# Altium footprint library LIANGJICHAO_LIBRARY.PCBLIB: 178 footprints (part 10 of 12)
Each footprint in its own frame and in the unit in brackets; x right, y up, seen from the top. Pads: shape width x height; smd on the part's side, far side on the other; paste and mask are expansions set on the pad; w line width, h text height; cw(c..) or ccw(c..) is an arc to the next point about the centre after c.
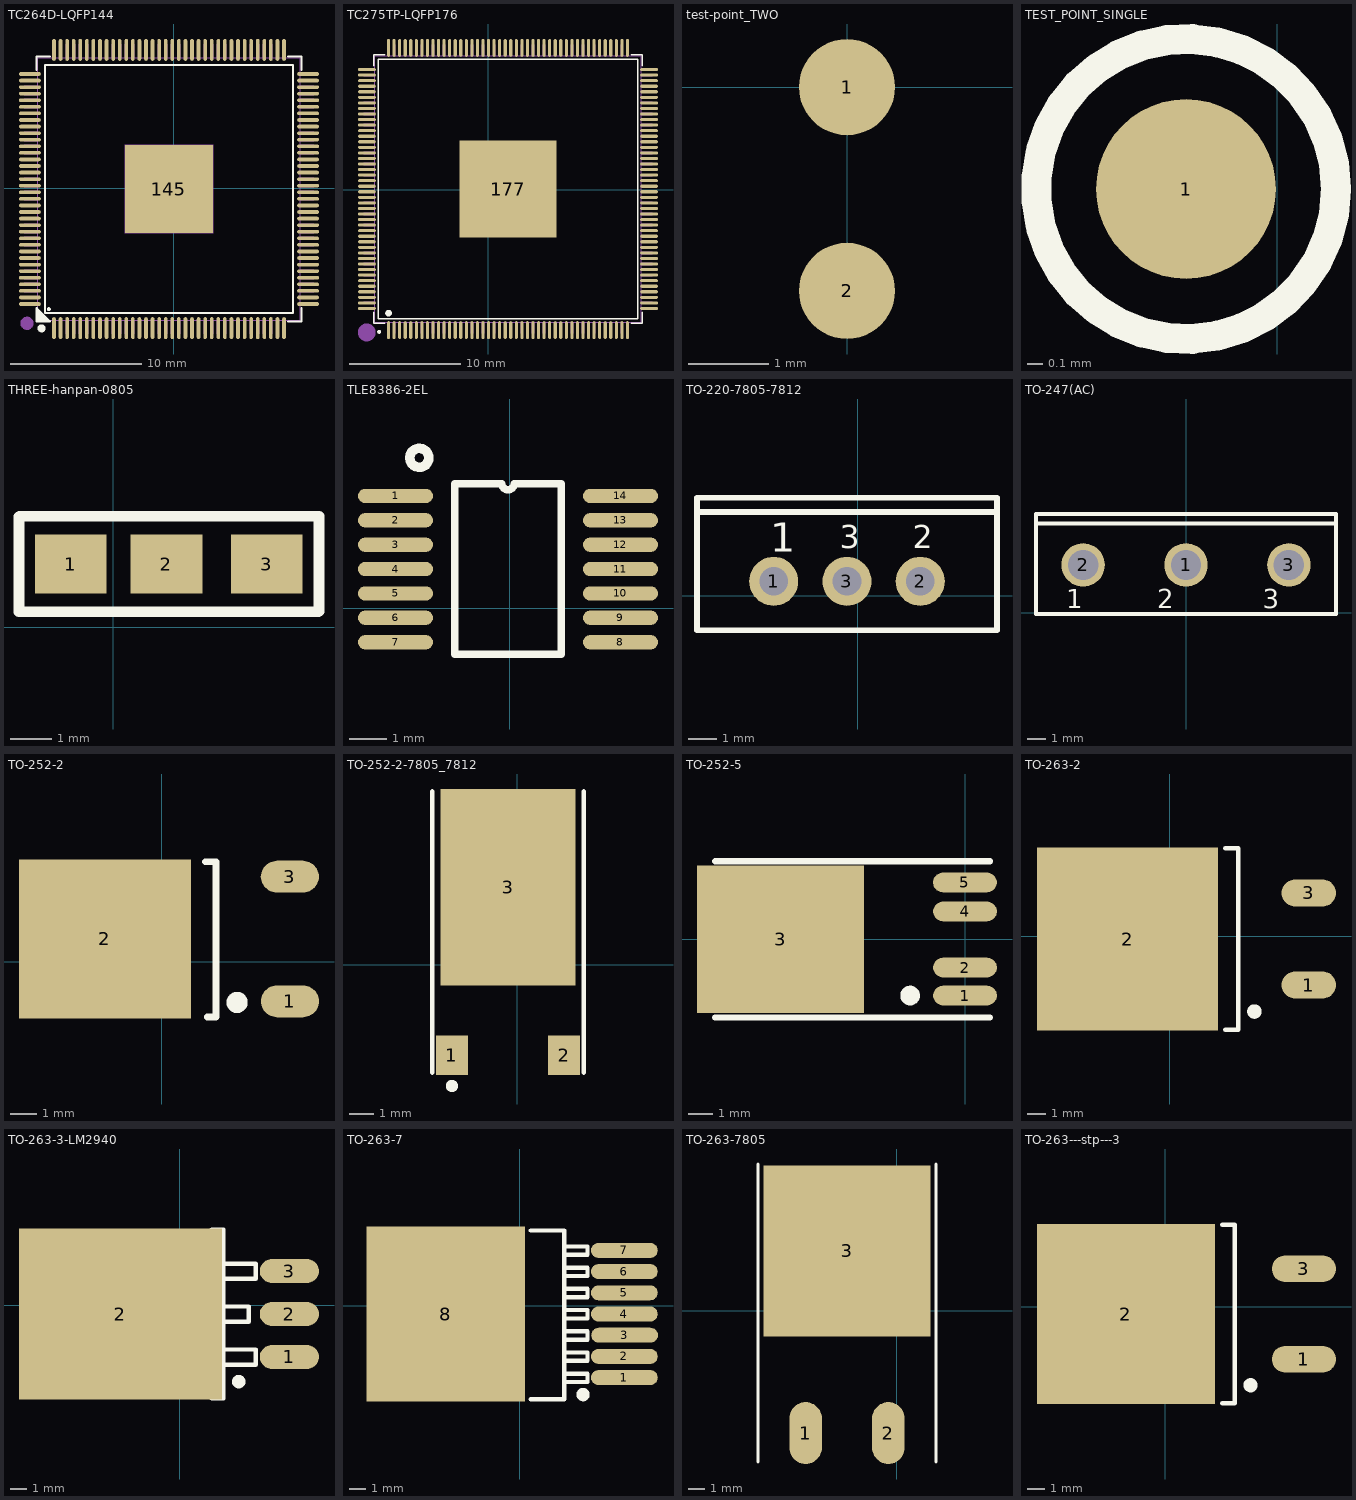
[diagram p9: the footprints below, top view; thin cyan lines are the x and y axes]

## TC264D-LQFP144 [mm]
pads (145):
  oval 0.28x1.66 smd paste+0 mask+0.05: 1(-9.1,-10.651) 2(-8.6,-10.651) 3(-8.1,-10.651) 4(-7.6,-10.651) 5(-7.1,-10.651) 6(-6.6,-10.651) 7(-6.1,-10.651) 8(-5.6,-10.651) 9(-5.1,-10.651) 10(-4.6,-10.651) 11(-4.1,-10.651) 12(-3.6,-10.651) 13(-3.1,-10.651) 14(-2.6,-10.651) 15(-2.1,-10.651) 16(-1.6,-10.651) 17(-1.1,-10.651) 18(-0.6,-10.651) 19(-0.1,-10.651) 20(0.4,-10.651) 21(0.9,-10.651) 22(1.4,-10.651) 23(1.9,-10.651) 24(2.4,-10.651) 25(2.9,-10.651) 26(3.4,-10.651) 27(3.9,-10.651) 28(4.4,-10.651) 29(4.9,-10.651) 30(5.4,-10.651) 31(5.9,-10.651) 32(6.4,-10.651) 33(6.9,-10.651) 34(7.4,-10.651) 35(7.9,-10.651) 36(8.4,-10.651) 73(8.4,10.509) 74(7.9,10.509) 75(7.4,10.509) 76(6.9,10.509) 77(6.4,10.509) 78(5.9,10.509) 79(5.4,10.509) 80(4.9,10.509) 81(4.4,10.509) 82(3.9,10.509) 83(3.4,10.509) 84(2.9,10.509) 85(2.4,10.509) 86(1.9,10.509) 87(1.4,10.509) 88(0.9,10.509) 89(0.4,10.509) 90(-0.1,10.509) 91(-0.6,10.509) 92(-1.1,10.509) 93(-1.6,10.509) 94(-2.1,10.509) 95(-2.6,10.509) 96(-3.1,10.509) 97(-3.6,10.509) 98(-4.1,10.509) 99(-4.6,10.509) 100(-5.1,10.509) 101(-5.6,10.509) 102(-6.1,10.509) 103(-6.6,10.509) 104(-7.1,10.509) 105(-7.6,10.509) 106(-8.1,10.509) 107(-8.6,10.509) 108(-9.1,10.509)
  oval 1.66x0.28 smd paste+0 mask+0.05: 37(10.23,-8.821) 38(10.23,-8.321) 39(10.23,-7.821) 40(10.23,-7.321) 41(10.23,-6.821) 42(10.23,-6.321) 43(10.23,-5.821) 44(10.23,-5.321) 45(10.23,-4.821) 46(10.23,-4.321) 47(10.23,-3.821) 48(10.23,-3.321) 49(10.23,-2.821) 50(10.23,-2.321) 51(10.23,-1.821) 52(10.23,-1.321) 53(10.23,-0.821) 54(10.23,-0.321) 55(10.23,0.179) 56(10.23,0.679) 57(10.23,1.179) 58(10.23,1.679) 59(10.23,2.179) 60(10.23,2.679) 61(10.23,3.179) 62(10.23,3.679) 63(10.23,4.179) 64(10.23,4.679) 65(10.23,5.179) 66(10.23,5.679) 67(10.23,6.179) 68(10.23,6.679) 69(10.23,7.179) 70(10.23,7.679) 71(10.23,8.179) 72(10.23,8.679) 109(-10.93,8.679) 110(-10.93,8.179) 111(-10.93,7.679) 112(-10.93,7.179) 113(-10.93,6.679) 114(-10.93,6.179) 115(-10.93,5.679) 116(-10.93,5.179) 117(-10.93,4.679) 118(-10.93,4.179) 119(-10.93,3.679) 120(-10.93,3.179) 121(-10.93,2.679) 122(-10.93,2.179) 123(-10.93,1.679) 124(-10.93,1.179) 125(-10.93,0.679) 126(-10.93,0.179) 127(-10.93,-0.321) 128(-10.93,-0.821) 129(-10.93,-1.321) 130(-10.93,-1.821) 131(-10.93,-2.321) 132(-10.93,-2.821) 133(-10.93,-3.321) 134(-10.93,-3.821) 135(-10.93,-4.321) 136(-10.93,-4.821) 137(-10.93,-5.321) 138(-10.93,-5.821) 139(-10.93,-6.321) 140(-10.93,-6.821) 141(-10.93,-7.321) 142(-10.93,-7.821) 143(-10.93,-8.321) 144(-10.93,-8.821)
  rect 6.7x6.7 smd paste+0 mask+0.05: 145(-0.35,-0.071)
Top Overlay:
  circle w0.3: c-10.05,-10.671 r0.15
  circle w0.15: c-9.493,-9.214 r0.075
  region: -10.427,-9.113 -10.427,-10.071 -10.35,-10.147 -9.393,-10.147
  lines w0.152: -10.427,-9.113 -10.427,-10.147 -9.393,-10.147 ; -10.427,8.971 -10.427,10.005 -9.393,10.005 ; -10.4,-9.14 -9.42,-10.12 ; 8.692,-10.147 9.726,-10.147 9.726,-9.113 ; 8.692,10.005 9.726,10.005 9.726,8.971 ; -9.796,-9.516 9.095,-9.516 9.095,9.374 -9.796,9.374 -9.796,-9.516
Mechanical 2:
  circle w0.5: c-11.151,-10.287 r0.25
Mechanical 6:
  lines w0.051: -10.35,-10.071 9.65,-10.071 9.65,9.929 -10.35,9.929 -10.35,-10.071
Mechanical 7:
  drawing of 144 lines, arcs and shapes, not listed
Mechanical 9:
  drawing of 145 lines, arcs and shapes, not listed

## TC275TP-LQFP176 [mm]
pads (177):
  oval 0.28x1.6 smd paste+0.051: 1(-8.985,-12.643) 2(-8.485,-12.643) 3(-7.985,-12.643) 4(-7.485,-12.643) 5(-6.985,-12.643) 6(-6.485,-12.643) 7(-5.985,-12.643) 8(-5.485,-12.643) 9(-4.985,-12.643) 10(-4.485,-12.643) 11(-3.985,-12.643) 12(-3.485,-12.643) 13(-2.985,-12.643) 14(-2.485,-12.643) 15(-1.985,-12.643) 16(-1.485,-12.643) 17(-0.985,-12.643) 18(-0.485,-12.643) 19(0.015,-12.643) 20(0.515,-12.643) 21(1.015,-12.643) 22(1.515,-12.643) 23(2.015,-12.643) 24(2.515,-12.643) 25(3.015,-12.643) 26(3.515,-12.643) 27(4.015,-12.643) 28(4.515,-12.643) 29(5.015,-12.643) 30(5.515,-12.643) 31(6.015,-12.643) 32(6.515,-12.643) 33(7.015,-12.643) 34(7.515,-12.643) 35(8.015,-12.643) 36(8.515,-12.643) 37(9.015,-12.643) 38(9.515,-12.643) 39(10.015,-12.643) 40(10.515,-12.643) 41(11.015,-12.643) 42(11.515,-12.643) 43(12.015,-12.643) 44(12.515,-12.643) 89(12.515,12.757) 90(12.015,12.757) 91(11.515,12.757) 92(11.015,12.757) 93(10.515,12.757) 94(10.015,12.757) 95(9.515,12.757) 96(9.015,12.757) 97(8.515,12.757) 98(8.015,12.757) 99(7.515,12.757) 100(7.015,12.757) 101(6.515,12.757) 102(6.015,12.757) 103(5.515,12.757) 104(5.015,12.757) 105(4.515,12.757) 106(4.015,12.757) 107(3.515,12.757) 108(3.015,12.757) 109(2.515,12.757) 110(2.015,12.757) 111(1.515,12.757) 112(1.015,12.757) 113(0.515,12.757) 114(0.015,12.757) 115(-0.485,12.757) 116(-0.985,12.757) 117(-1.485,12.757) 118(-1.985,12.757) 119(-2.485,12.757) 120(-2.985,12.757) 121(-3.485,12.757) 122(-3.985,12.757) 123(-4.485,12.757) 124(-4.985,12.757) 125(-5.485,12.757) 126(-5.985,12.757) 127(-6.485,12.757) 128(-6.985,12.757) 129(-7.485,12.757) 130(-7.985,12.757) 131(-8.485,12.757) 132(-8.985,12.757)
  oval 1.6x0.28 smd paste+0.051: 45(14.465,-10.693) 46(14.465,-10.193) 47(14.465,-9.693) 48(14.465,-9.193) 49(14.465,-8.693) 50(14.465,-8.193) 51(14.465,-7.693) 52(14.465,-7.193) 53(14.465,-6.693) 54(14.465,-6.193) 55(14.465,-5.693) 56(14.465,-5.193) 57(14.465,-4.693) 58(14.465,-4.193) 59(14.465,-3.693) 60(14.465,-3.193) 61(14.465,-2.693) 62(14.465,-2.193) 63(14.465,-1.693) 64(14.465,-1.193) 65(14.465,-0.693) 66(14.465,-0.193) 67(14.465,0.307) 68(14.465,0.807) 69(14.465,1.307) 70(14.465,1.807) 71(14.465,2.307) 72(14.465,2.807) 73(14.465,3.307) 74(14.465,3.807) 75(14.465,4.307) 76(14.465,4.807) 77(14.465,5.307) 78(14.465,5.807) 79(14.465,6.307) 80(14.465,6.807) 81(14.465,7.307) 82(14.465,7.807) 83(14.465,8.307) 84(14.465,8.807) 85(14.465,9.307) 86(14.465,9.807) 87(14.465,10.307) 88(14.465,10.807) 133(-10.935,10.807) 134(-10.935,10.307) 135(-10.935,9.807) 136(-10.935,9.307) 137(-10.935,8.807) 138(-10.935,8.307) 139(-10.935,7.807) 140(-10.935,7.307) 141(-10.935,6.807) 142(-10.935,6.307) 143(-10.935,5.807) 144(-10.935,5.307) 145(-10.935,4.807) 146(-10.935,4.307) 147(-10.935,3.807) 148(-10.935,3.307) 149(-10.935,2.807) 150(-10.935,2.307) 151(-10.935,1.807) 152(-10.935,1.307) 153(-10.935,0.807) 154(-10.935,0.307) 155(-10.935,-0.193) 156(-10.935,-0.693) 157(-10.935,-1.193) 158(-10.935,-1.693) 159(-10.935,-2.193) 160(-10.935,-2.693) 161(-10.935,-3.193) 162(-10.935,-3.693) 163(-10.935,-4.193) 164(-10.935,-4.693) 165(-10.935,-5.193) 166(-10.935,-5.693) 167(-10.935,-6.193) 168(-10.935,-6.693) 169(-10.935,-7.193) 170(-10.935,-7.693) 171(-10.935,-8.193) 172(-10.935,-8.693) 173(-10.935,-9.193) 174(-10.935,-9.693) 175(-10.935,-10.193) 176(-10.935,-10.693)
  rect 8.7x8.7 smd paste+0.051: 177(1.765,0.057)
Top Overlay:
  circle w0.3: c-8.985,-11.114 r0.15
  circle w0.2: c-9.83,-12.802 r0.076
  lines w0.152: -10.311,-11.023 -10.311,-12.019 -9.315,-12.019 ; -10.311,11.138 -10.311,12.133 -9.315,12.133 ; 12.846,-12.019 13.841,-12.019 13.841,-11.023 ; 12.846,12.133 13.841,12.133 13.841,11.138 ; -9.906,-11.614 13.437,-11.614 13.437,11.729 -9.906,11.729 -9.906,-11.614
Mechanical 2:
  circle w0.8: c-10.947,-12.852 r0.4
Mechanical 6:
  lines w0.051: -10.235,-11.943 13.765,-11.943 13.765,12.057 -10.235,12.057 -10.235,-11.943
Mechanical 7:
  drawing of 176 lines, arcs and shapes, not listed
Mechanical 8:
  region: -11.175,-12.943 -11.175,-12.968 -11.21,-13.003 -11.26,-13.003 -11.295,-12.968 -11.295,-12.943 -11.295,-12.918 -11.26,-12.883 -11.21,-12.883 -11.175,-12.918
Mechanical 9:
  drawing of 177 lines, arcs and shapes, not listed

## test-point_TWO [mm]
pads (2):
  round 1.2 smd: 1(0,0) 2(0,-2.54)

## TEST_POINT_SINGLE [mm]
pads (1):
  round 1.2 smd: 1(-0.61,3.607)
Top Overlay:
  circle w0.2: c-0.61,3.607 r1

## THREE-hanpan-0805 [mil]
pads (3):
  rect 68x56 smd: 1(-40,60) 2(50.55,60) 3(145.55,60)
Top Overlay:
  lines w7.87: -78,14.72 -63,14.72 ; -78,105.28 -62.45,105.28 ; 168.45,14.72 184,14.72 ; 169,105.28 184,105.28
  lines w10: -38.28,105.28 -10.55,105.28 116.55,105.28 169,105.28 195,105.28 195,15.28 194.45,14.72 130.28,14.72 ; -24.28,105.28 -88.45,105.28 -89,104.72 -89,14.72 -63,14.72 -10.55,14.72 116.55,14.72 144.28,14.72

## TLE8386-2EL [mm]
pads (14):
  oval 2x0.38 smd: 1(-3.048,2.997) 2(-3.048,2.347) 3(-3.048,1.697) 4(-3.048,1.047) 5(-3.048,0.397) 6(-3.048,-0.253) 7(-3.048,-0.903) 8(2.952,-0.903) 9(2.952,-0.253) 10(2.952,0.397) 11(2.952,1.047) 12(2.952,1.697) 13(2.952,2.347) 14(2.952,2.997)
Top Overlay:
  circle w0.254: c-2.413,4.013 r0.254
  lines w0.2: -1.463,-1.228 -1.463,3.322 -0.21,3.322 ccw(c-0.048,3.322) 0.114,3.322 1.367,3.322 1.367,-1.228 -1.463,-1.228

## TO-220-7805-7812 [mm]
pads (3):
  round 1.7 hole 1: 1(-2.921,0.508) 2(2.159,0.508) 3(-0.381,0.508)
Top Overlay:
  lines w0.2: -5.581,2.908 4.819,2.908 ; -5.581,-1.192 -5.581,3.408 4.819,3.408 4.819,-1.192 -5.581,-1.192
  text "1" at -3.048,1.524 h1
  text "2" at 1.905,1.651 h0.8
  text "3" at -0.635,1.651 h0.8

## TO-247(AC) [mm]
pads (3):
  round 2.3 hole 1.6: 1(0,2.54) 2(-5.45,2.54) 3(5.45,2.54)
Top Overlay:
  lines w0.2: -7.95,4.74 7.95,4.74 ; -7.95,-0.06 -7.95,5.24 7.95,5.24 7.95,-0.06 -7.95,-0.06
  text "3" at 4.064,0.254 h1
  text "2" at -1.524,0.254 h1
  text "1" at -6.35,0.254 h1

## TO-252-2 [mm]
pads (3):
  oval 2.2x1.2 smd: 1(4.84,-1.495) 3(4.836,3.227)
  rect 6.5x6 smd: 2(-2.16,0.866)
Top Overlay:
  circle w0.4: c2.84,-1.534 r0.2
  lines w0.254: 1.64,3.791 2.04,3.791 2.04,-2.084 1.715,-2.084

## TO-252-2-7805_7812 [mm]
pads (3):
  rect 1.3x1.6 smd: 1(-2.666,-3.679) 2(1.904,-3.679)
  rect 5.5x8 smd: 3(-0.381,3.171)
Top Overlay:
  circle w0.25: c-2.666,-4.929 r0.125
  lines w0.2: -3.466,-4.379 -3.466,6.621 -3.466,7.075 ; 2.704,-4.379 2.704,6.621 2.704,7.075

## TO-252-5 [mm]
pads (5):
  oval 2.6x0.8 smd: 1(0,-2.283) 2(0,-1.143) 4(0,1.137) 5(-0.004,2.317)
  rect 6.8x6 smd: 3(-7.5,0)
Top Overlay:
  circle w0.4: c-2.232,-2.283 r0.2
  lines w0.254: -10.16,-3.172 1.016,-3.172 ; -10.16,3.175 1.016,3.175

## TO-263-2 [mm]
pads (3):
  oval 3x1.5 smd: 1(7.673,-2.694) 3(7.673,2.386)
  rect 10x10.1 smd: 2(-2.327,-0.154)
Top Overlay:
  circle w0.4: c4.673,-4.154 r0.2
  lines w0.254: 3.073,-5.154 3.773,-5.154 3.773,4.846 3.073,4.846

## TO-263-3-LM2940 [mil]
pads (4):
  oval 137.8x56 smd: 1(255,-120) 2(255,-20) 3(255,80)
  rect 472.44x397.64 smd: 2(-138.7,-20)
Top Overlay:
  circle w15.75: c136.89,-177.48 r7.87
  lines w10: 73.9,-216.85 101.46,-216.85 101.46,176.85 73.9,176.85 ; 101.46,-138.11 176.26,-138.11 176.26,-102.68 101.46,-102.68 ; 101.46,-38.11 160.51,-38.11 160.51,-2.68 101.46,-2.68 ; 101.46,61.89 176.26,61.89 176.26,97.32 101.46,97.32

## TO-263-7 [mm]
pads (8):
  oval 4x0.9 smd: 1(6.26,-4.317) 2(6.26,-3.047) 3(6.274,-1.778) 4(6.26,-0.507) 5(6.26,0.763) 6(6.26,2.033) 7(6.26,3.303)
  rect 9.5x10.5 smd: 8(-4.44,-0.507)
Top Overlay:
  circle w0.4: c3.785,-5.332 r0.2
  lines w0.254: 0.66,-5.607 2.66,-5.607 2.66,4.493 0.66,4.493 ; 2.66,-4.582 4.06,-4.582 4.06,-4.082 2.66,-4.082 ; 2.66,-3.312 4.06,-3.312 4.06,-2.812 2.66,-2.812 ; 2.66,-2.042 4.06,-2.042 4.06,-1.542 2.66,-1.542 ; 2.66,-0.772 4.06,-0.772 4.06,-0.272 2.66,-0.272 ; 2.66,0.498 4.06,0.498 4.06,0.998 2.66,0.998 ; 2.66,1.768 4.06,1.768 4.06,2.268 2.66,2.268 ; 2.66,3.038 4.06,3.038 4.06,3.538 2.66,3.538

## TO-263-7805 [mm]
pads (3):
  oval 2x3.8 smd: 1(-5.588,-7.492) 2(-0.508,-7.492)
  rect 10.25x10.5 smd: 3(-3.048,3.683)
Top Overlay:
  circle w0.25: c-5.588,-8.899 r0.125
  lines w0.2: -8.509,-9.271 -8.509,9.017 ; 2.413,-9.271 2.413,9.017

## TO-263---stp---3 [mm]
pads (3):
  oval 3.6x1.5 smd: 1(7.8,-2.948) 3(7.8,2.132)
  rect 10x10.1 smd: 2(-2.2,-0.408)
Top Overlay:
  circle w0.4: c4.8,-4.408 r0.2
  lines w0.254: 3.2,-5.408 3.9,-5.408 3.9,4.592 3.2,4.592